# Altium footprint library Layout_v1.PcbLib: 8 footprints
Each footprint in its own frame and in the unit in brackets; x right, y up, seen from the top. Pads: shape width x height; smd on the part's side, far side on the other; paste and mask are expansions set on the pad; w line width, h text height; cw(c..) or ccw(c..) is an arc to the next point about the centre after c.
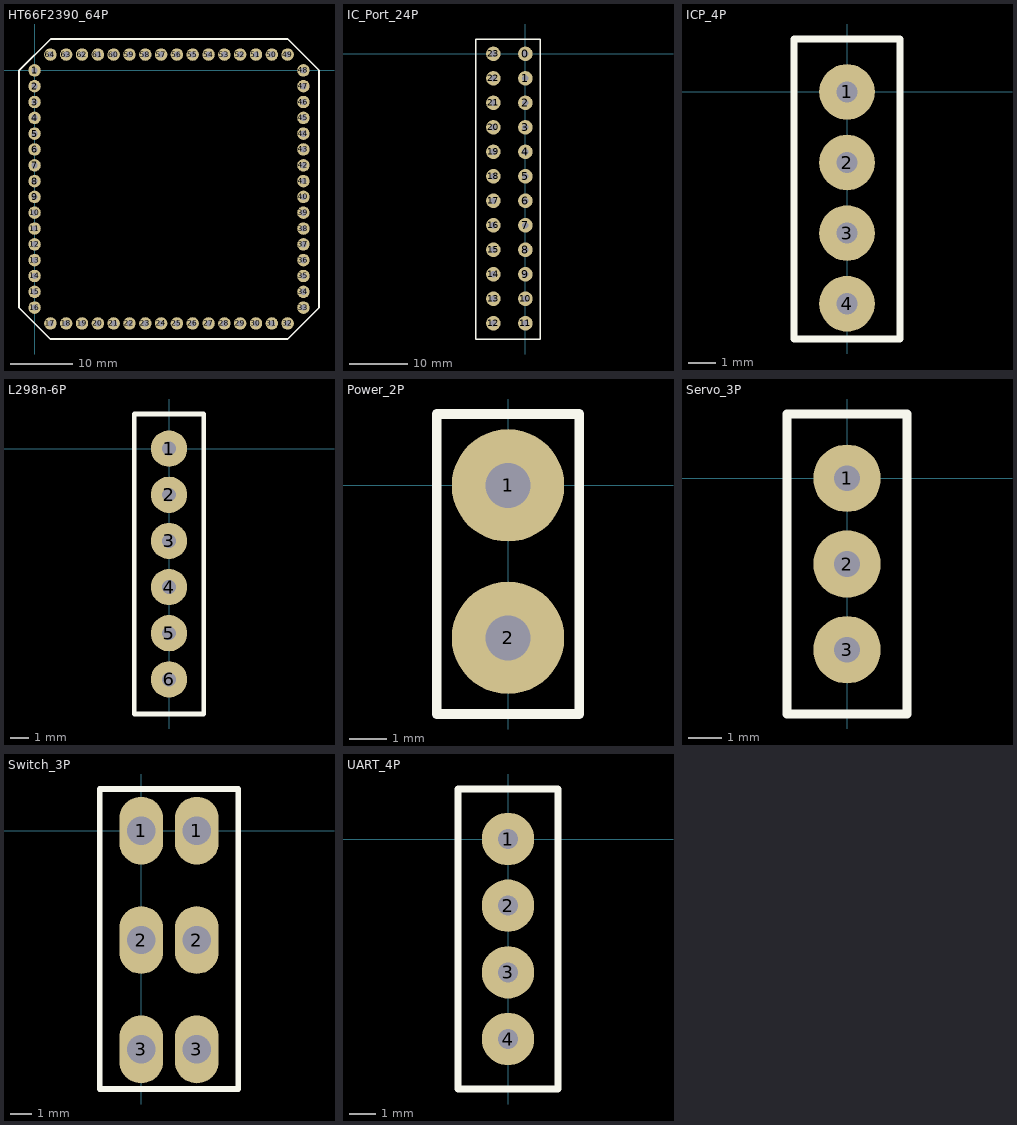
[diagram p0: the footprints below, top view; thin cyan lines are the x and y axes]

## HT66F2390_64P [mm]
height 11.54
pads (64):
  round 2 hole 1: 1(0,0) 2(0,-2.54) 3(0,-5.08) 4(0,-7.62) 5(0,-10.16) 6(0,-12.7) 7(0,-15.24) 8(0,-17.78) 9(0,-20.32) 10(0,-22.86) 11(0,-25.4) 12(0,-27.94) 13(0,-30.48) 14(0,-33.02) 15(0,-35.56) 16(0,-38.1) 17(2.54,-40.64) 18(5.08,-40.64) 19(7.62,-40.64) 20(10.16,-40.64) 21(12.7,-40.64) 22(15.24,-40.64) 23(17.78,-40.64) 24(20.32,-40.64) 25(22.86,-40.64) 26(25.4,-40.64) 27(27.94,-40.64) 28(30.48,-40.64) 29(33.02,-40.64) 30(35.56,-40.64) 31(38.1,-40.64) 32(40.64,-40.64) 33(43.18,-38.1) 34(43.18,-35.56) 35(43.18,-33.02) 36(43.18,-30.48) 37(43.18,-27.94) 38(43.18,-25.4) 39(43.18,-22.86) 40(43.18,-20.32) 41(43.18,-17.78) 42(43.18,-15.24) 43(43.18,-12.7) 44(43.18,-10.16) 45(43.18,-7.62) 46(43.18,-5.08) 47(43.18,-2.54) 48(43.18,0) 49(40.64,2.54) 50(38.1,2.54) 51(35.56,2.54) 52(33.02,2.54) 53(30.48,2.54) 54(27.94,2.54) 55(25.4,2.54) 56(22.86,2.54) 57(20.32,2.54) 58(17.78,2.54) 59(15.24,2.54) 60(12.7,2.54) 61(10.16,2.54) 62(7.62,2.54) 63(5.08,2.54) 64(2.54,2.54)
Top Overlay:
  lines w0.254: -2.5,0 -2.5,-38.1 2.54,-43.14 40.64,-43.14 45.68,-38.1 45.68,0 40.64,5.04 2.58,5.04 -2.46,0

## IC_Port_24P [mm]
pads (24):
  round 2.5 hole 1.1: 0(0,0) 1(0,-4.2) 2(0,-8.4) 3(0,-12.6) 4(0,-16.8) 5(0,-21) 6(0,-25.2) 7(0,-29.4) 8(0,-33.6) 9(0,-37.8) 10(0,-42) 11(0,-46.2) 12(-5.5,-46.2) 13(-5.5,-42) 14(-5.5,-37.8) 15(-5.5,-33.6) 16(-5.5,-29.4) 17(-5.5,-25.2) 18(-5.5,-21) 19(-5.5,-16.8) 20(-5.5,-12.6) 21(-5.5,-8.4) 22(-5.5,-4.2) 23(-5.5,0)
Top Overlay:
  lines w0.254: -8.509,-48.895 -8.509,2.54 2.54,2.54 2.54,-48.895 -8.509,-48.895

## ICP_4P [mm]
height 11.54
pads (4):
  round 2 hole 0.762: 1(0,0) 2(0,-2.54) 3(0,-5.08) 4(0,-7.62)
Top Overlay:
  lines w0.254: -1.905,-8.89 1.905,-8.89 1.905,1.905 -1.905,1.905 -1.905,-8.89

## L298n-6P [mm] "L298n-6P"
height 11.54
pads (6):
  round 2 hole 0.762: 1(0,0) 2(0,-2.54) 3(0,-5.08) 4(0,-7.62) 5(0,-10.16) 6(0,-12.7)
Top Overlay:
  lines w0.254: -1.905,-14.605 -1.905,1.905 1.905,1.905 1.905,-14.605 -1.905,-14.605

## Power_2P [mm]
height 11.54
pads (2):
  round 3 hole 1.2: 1(0,0) 2(0,-4.064)
Top Overlay:
  lines w0.254: -1.905,-6.096 1.905,-6.096 1.905,1.905 -1.905,1.905 -1.905,-6.096

## Servo_3P [mm]
height 11.54
pads (3):
  round 2 hole 0.762: 1(0,0) 2(0,-2.54) 3(0,-5.08)
Top Overlay:
  lines w0.254: -1.778,-6.985 1.778,-6.985 1.778,1.905 -1.778,1.905 -1.778,-6.985

## Switch_3P [mm]
height 11.54
pads (6):
  oval 2x3.1 hole 1.3 square: 1(0,0) 1(2.54,0) 2(0,-5) 2(2.54,-5) 3(0,-10) 3(2.54,-10)
Top Overlay:
  lines w0.254: -1.905,-11.811 -1.905,1.905 4.445,1.905 4.445,-11.811 -1.905,-11.811

## UART_4P [mm]
height 11.54
pads (4):
  round 2 hole 0.762: 1(0,0) 2(0,-2.54) 3(0,-5.08) 4(0,-7.62)
Top Overlay:
  lines w0.254: -1.905,-9.525 -1.905,1.905 1.905,1.905 1.905,-9.525 -1.905,-9.525